# EAGLE library part CH340G (library custom)
USB to Serial Converter 2Mbps 16-SOIC
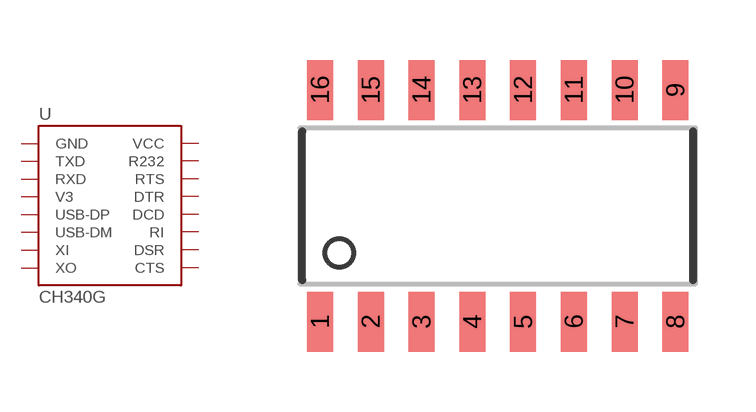
[diagram p146: symbol with the pads of 16-SOIC; footprint 16-SOIC]

Designator prefix U

## CH340G  [16-SOIC]
1  GND
2  TXD
3  RXD
4  V3
5  USB-DP
6  USB-DM
7  XI
8  XO
9  CTS
10  DSR
11  RI
12  DCD
13  DTR
14  RTS
15  R232
16  VCC

## Footprint 16-SOIC (pad centres in mm)
smd 0.65 x 1.5: 1 -4.445,-2.9; 2 -3.175,-2.9; 3 -1.905,-2.9; 4 -0.635,-2.9; 5 0.635,-2.9; 6 1.905,-2.9; 7 3.175,-2.9; 8 4.445,-2.9; 9 4.445,2.9; 10 3.175,2.9; 11 1.905,2.9; 12 0.635,2.9; 13 -0.635,2.9; 14 -1.905,2.9; 15 -3.175,2.9; 16 -4.445,2.9